# Altium schematic symbol library LED.SchLib: 8 symbols
Pins are listed as number, name and electrical type; pins without a type are passive.

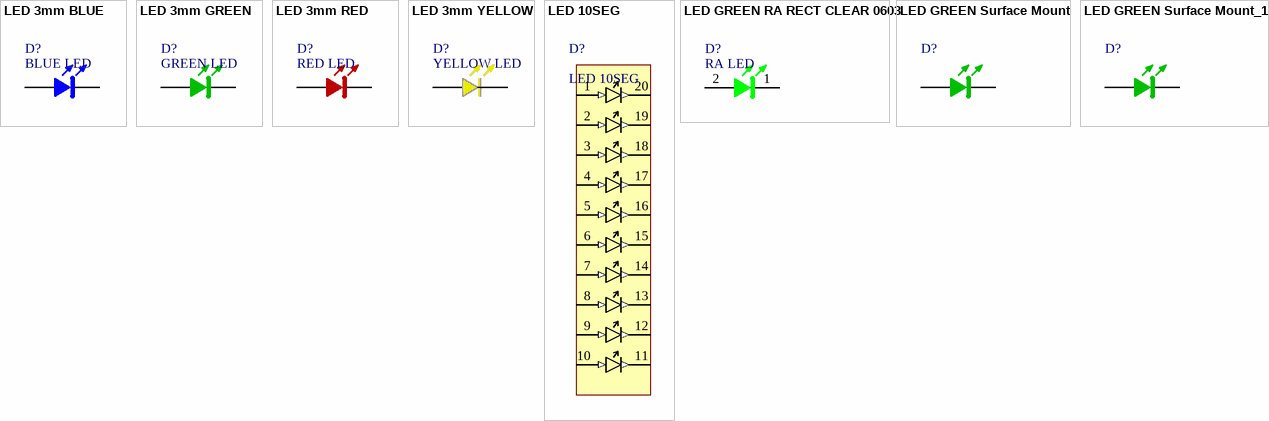
[diagram p0: symbols LED 3mm BLUE to LED GREEN Surface Mount_1]

## LED 3mm BLUE
designator D?, comment BLUE LED
3mm Diameter LED; Supplier 1: Digi-Key; Supplier Part Number 1: 160-1603-ND
footprint LED 3mm
signal-integrity model LED
pins: 1 Anode, 2 Cathode

## LED 3mm GREEN
designator D?, comment GREEN LED
3mm Diameter LED; Supplier 1: Digi-Key; Supplier Part Number 1: 160-1169-1-ND
signal-integrity model LED
pins: 1 Anode, 2 Cathode

## LED 3mm RED
designator D?, comment RED LED
3mm Diameter LED; Supplier 1: Digi-Key; Supplier Part Number 1: 160-1704-ND
footprint LED 3mm
signal-integrity model LED
pins: 1 Anode, 2 Cathode

## LED 3mm YELLOW
designator D?, comment YELLOW LED
3mm Diameter LED; Supplier 1: Digi-Key; Supplier Part Number 1: 160-1147-ND
footprint LED 3mm
signal-integrity model LED
pins: 1 Anode, 2 Cathode

## LED 10SEG
designator D?
10SEG LED Bar Graph; Sup. Part #: 754-1177-5-ND; Manufacturer: Kingbright Company; Man. Part #: DC10GWA; Supplier 1: Digi-Key
footprint LED BAR GRAPH ARRAY (10 Segment Bar Graph Array)
pins: 1 (in), 2 (in), 3 (in), 4 (in), 5 (in), 6 (in), 7 (in), 8 (in), 9 (in), 10 (in), 11 (out), 12 (out), 13 (out), 14 (out), 15 (out), 16 (out), 17 (out), 18 (out), 19 (out), 20 (out)

## LED GREEN RA RECT CLEAR 0603
designator D?, comment RA LED
Supplier 1: Digi-Key; Supplier Part Number 1: 160-1478-1-ND
signal-integrity model LED
footprint RA LED (Right Angle LED; 2 Flat Leads)
pins: 1 Cathode, 2 Anode

## LED GREEN Surface Mount
designator D?, comment GREEN LED  (value not drawn)
Green LED Surface Mount; Supplier 1: Digi-Key; Supplier Part Number 1: 160-1169-1-ND
signal-integrity model LED
footprint 3.2X1.6X1.1 (SMT LED; 2 Flat Leads)
pins: 1 Anode, 2 Cathode

## LED GREEN Surface Mount_1
designator D?, comment GREEN LED  (value not drawn)
Green LED Surface Mount; Supplier 1: Digi-Key; Supplier Part Number 1: 160-1169-1-ND
signal-integrity model LED
footprint 3.2X1.6X1.1 (SMT LED; 2 Flat Leads)
pins: 1 Anode, 2 Cathode